# Altium schematic symbol library U_AL8806.SchLib: 1 symbol
Pins are listed as number, name and electrical type; pins without a type are passive.

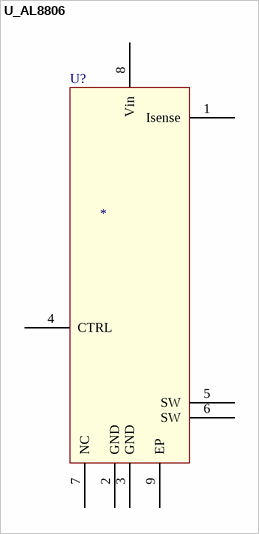
[diagram p0: symbol U_AL8806]

## U_AL8806
designator U?
pins: 1 Isense, 2 GND, 3 GND, 4 CTRL, 5 SW, 6 SW, 7 NC, 8 Vin, 9 EP